# Altium integrated library DS3231M_.IntLib: 1 symbol
Pins are listed as number, name and electrical type; pins without a type are passive.

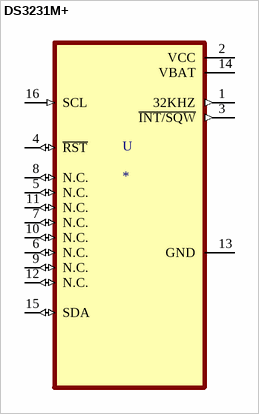
[diagram p0: symbol DS3231M+]

## DS3231M+
designator U
Real Time Clock _RTC_ IC Clock/Calendar IÂ²C, 2-Wire Serial 8-SOIC _0.154, 3.90mm Width_; MP: DS3231M; MF: Maxim Integrated; Availability: Unavailable; Price: None; Value: *; SnapEDA_Link: https://www.snapeda.com/parts/DS3231M/Maxim%20Integrated/view-part/2748210/?ref=snap; Package: SOIC-8 Maxim Integrated
footprint SOIC127P1032X265-16N
pins: 1 32KHZ (out), 2 VCC (power), 3 ~{INT/SQW} (out), 4 ~{RST} (io), 5 N.C. (io), 6 N.C. (io), 7 N.C. (io), 8 N.C. (io), 9 N.C. (io), 10 N.C. (io), 11 N.C. (io), 12 N.C. (io), 13 GND (power), 14 VBAT (power), 15 SDA (io), 16 SCL (in)